# EAGLE library part OPT3002SINGLE (library TIcustom)
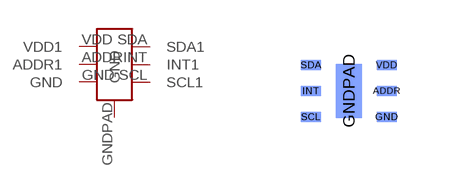
[diagram p5: symbol with the pads of OPT3002-SINGLE; footprint OPT3002-SINGLE]

Designator prefix -

## OPT3002SINGLE  [OPT3002-SINGLE]
ADDR  ADDR1
GND  GND
GNDPAD  GND
INT  INT1
SCL  SCL1
SDA  SDA1
VDD  VDD1

## Footprint OPT3002-SINGLE (pad centres in mm)
smd 0.5 x 0.25 bottom: ADDR 0.95,-0.09; GND 0.95,-0.74; INT -0.95,-0.09; SCL -0.95,-0.74; SDA -0.95,0.56; VDD 0.95,0.56
smd 0.65 x 1.35 bottom: GNDPAD 0,-0.09